# Altium schematic symbol library basic_lib_v10.SchLib: 66 symbols
Pins are listed as number, name and electrical type; pins without a type are passive.

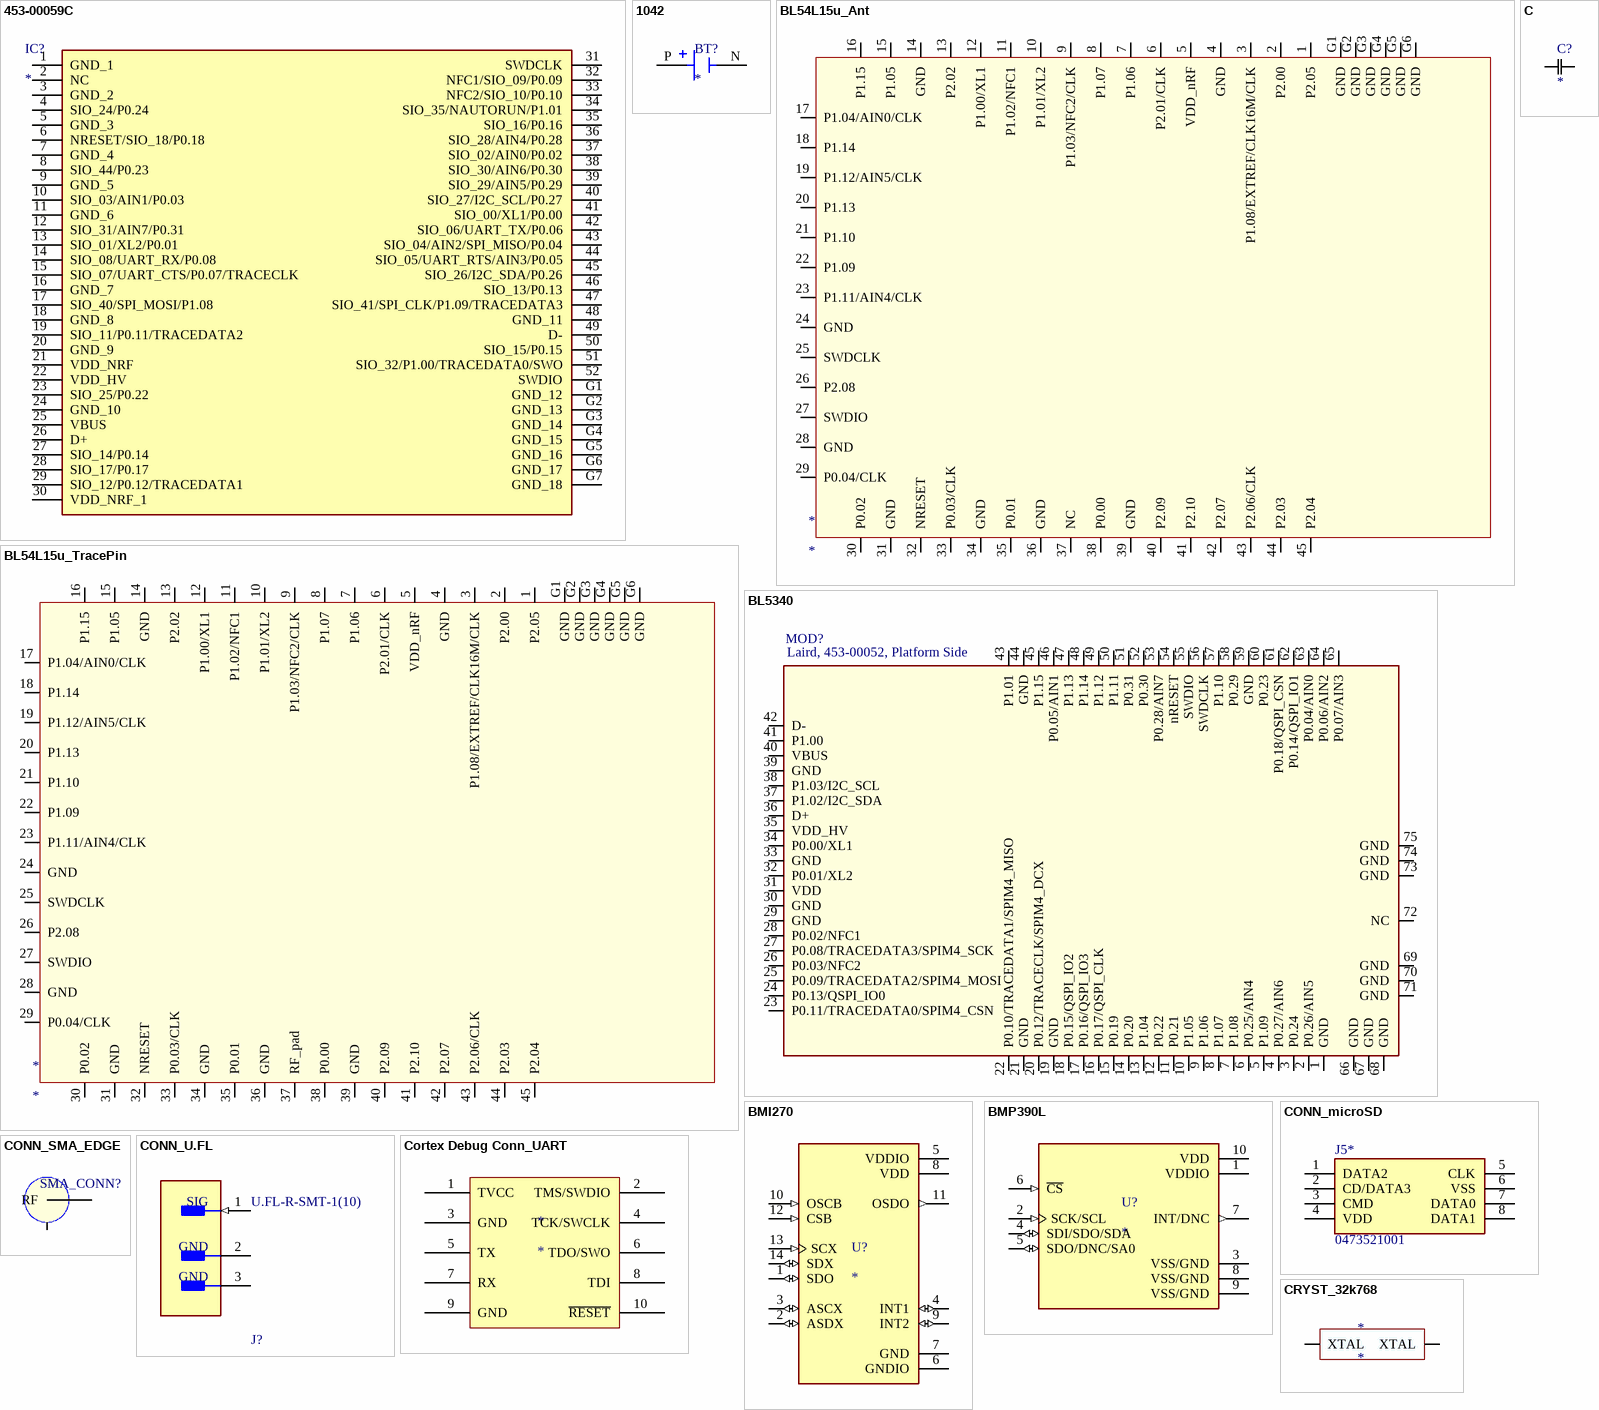
[diagram p0: symbols 453-00059C to CRYST_32k768]

## 453-00059C
designator IC?
Integrated Circuit; Manufacturer_Name: Laird - Wireless & Thermal Systems; Manufacturer_Part_Number: 453-00059C; Datasheet Link: https://connectivity-staging.s3.us-east-2.amazonaws.com/2021-01/CS-DS-BL653u%20v1_1.pdf; Height: 1.6mm
footprint 45300059C
pins: 1 GND_1, 2 NC, 3 GND_2, 4 SIO_24/P0.24, 5 GND_3, 6 NRESET/SIO_18/P0.18, 7 GND_4, 8 SIO_44/P0.23, 9 GND_5, 10 SIO_03/AIN1/P0.03, 11 GND_6, 12 SIO_31/AIN7/P0.31, 13 SIO_01/XL2/P0.01, 14 SIO_08/UART_RX/P0.08, 15 SIO_07/UART_CTS/P0.07/TRACECLK, 16 GND_7, 17 SIO_40/SPI_MOSI/P1.08, 18 GND_8, 19 SIO_11/P0.11/TRACEDATA2, 20 GND_9, 21 VDD_NRF, 22 VDD_HV, 23 SIO_25/P0.22, 24 GND_10, 25 VBUS, 26 D+, 27 SIO_14/P0.14, 28 SIO_17/P0.17, 29 SIO_12/P0.12/TRACEDATA1, 30 VDD_NRF_1, 31 SWDCLK, 32 NFC1/SIO_09/P0.09, 33 NFC2/SIO_10/P0.10, 34 SIO_35/NAUTORUN/P1.01, 35 SIO_16/P0.16, 36 SIO_28/AIN4/P0.28, 37 SIO_02/AIN0/P0.02, 38 SIO_30/AIN6/P0.30, 39 SIO_29/AIN5/P0.29, 40 SIO_27/I2C_SCL/P0.27, 41 SIO_00/XL1/P0.00, 42 SIO_06/UART_TX/P0.06, 43 SIO_04/AIN2/SPI_MISO/P0.04, 44 SIO_05/UART_RTS/AIN3/P0.05, 45 SIO_26/I2C_SDA/P0.26, 46 SIO_13/P0.13, 47 SIO_41/SPI_CLK/P1.09/TRACEDATA3, 48 GND_11, 49 D-, 50 SIO_15/P0.15, 51 SIO_32/P1.00/TRACEDATA0/SWO, 52 SWDIO, G1 GND_12, G2 GND_13, G3 GND_14, G4 GND_15, G5 GND_16, G6 GND_17, G7 GND_18

## 1042
designator BT?
SMT Holder for 18650 Battery; MF: Keystone Electronics Corp.; MP: 1042; SnapEDA_Link: https://www.snapeda.com/parts/1042/Keystone/view-part/?ref=snap; Package: NON STANDARD-5 Keystone; Value: *; Check_prices: https://www.snapeda.com/parts/1042/Keystone/view-part/?ref=eda
footprint BAT_1042
pins: N NEG, P POS

## BL54L15u_Ant
designator *
453-00223_BL54L15u_Chip ANT_SCH_Symbol_Altium
footprint Ezurio, BL54L15u Module, Antenna, Platform Side (Ezurio, BL54L15u Module, Platform Side)
pins: 1 P2.05, 2 P2.00, 3 P1.08/EXTREF/CLK16M/CLK, 4 GND, 5 VDD_nRF, 6 P2.01/CLK, 7 P1.06, 8 P1.07, 9 P1.03/NFC2/CLK, 10 P1.01/XL2, 11 P1.02/NFC1, 12 P1.00/XL1, 13 P2.02, 14 GND, 15 P1.05, 16 P1.15, 17 P1.04/AIN0/CLK, 18 P1.14, 19 P1.12/AIN5/CLK, 20 P1.13, 21 P1.10, 22 P1.09, 23 P1.11/AIN4/CLK, 24 GND, 25 SWDCLK, 26 P2.08, 27 SWDIO, 28 GND, 29 P0.04/CLK, 30 P0.02, 31 GND, 32 NRESET, 33 P0.03/CLK, 34 GND, 35 P0.01, 36 GND, 37 NC, 38 P0.00, 39 GND, 40 P2.09, 41 P2.10, 42 P2.07, 43 P2.06/CLK, 44 P2.03, 45 P2.04, G1 GND, G2 GND, G3 GND, G4 GND, G5 GND, G6 GND

## BL54L15u_TracePin
designator *
453-00224_BL54L15u_RF Trace Pin_SCH_Symbol_Altium
footprint Ezurio, BL54L15u Module, RF Trace Pin, Platform Side (Ezurio, BL54L15u Module, Platform Side)
pins: 1 P2.05, 2 P2.00, 3 P1.08/EXTREF/CLK16M/CLK, 4 GND, 5 VDD_nRF, 6 P2.01/CLK, 7 P1.06, 8 P1.07, 9 P1.03/NFC2/CLK, 10 P1.01/XL2, 11 P1.02/NFC1, 12 P1.00/XL1, 13 P2.02, 14 GND, 15 P1.05, 16 P1.15, 17 P1.04/AIN0/CLK, 18 P1.14, 19 P1.12/AIN5/CLK, 20 P1.13, 21 P1.10, 22 P1.09, 23 P1.11/AIN4/CLK, 24 GND, 25 SWDCLK, 26 P2.08, 27 SWDIO, 28 GND, 29 P0.04/CLK, 30 P0.02, 31 GND, 32 NRESET, 33 P0.03/CLK, 34 GND, 35 P0.01, 36 GND, 37 RF_pad, 38 P0.00, 39 GND, 40 P2.09, 41 P2.10, 42 P2.07, 43 P2.06/CLK, 44 P2.03, 45 P2.04, G1 GND, G2 GND, G3 GND, G4 GND, G5 GND, G6 GND

## BL5340
designator MOD?, comment Laird, 453-00052, Platform Side
Module, BL5340, Integrated Antenna, Laird, 453-00052, Platform Side; Substitutes Allowed: NO; Manufacturer: Laird; Footprint: Laird, BL5340 Module, Platform Side; Mounting: SMT; Manufacturer Part Number: 453-00052; Operating Temperature: -40C~105C; Component Type: Module
footprint Laird, 453-00052, Platform Side
footprint Laird, 453-00052, Platform Side_NO_KEEPOUT
pins: 1 GND, 2 P0.26/AIN5, 3 P0.24, 4 P0.27/AIN6, 5 P1.09, 6 P0.25/AIN4, 7 P1.08, 8 P1.07, 9 P1.06, 10 P1.05, 11 P0.21, 12 P0.22, 13 P1.04, 14 P0.20, 15 P0.19, 16 P0.17/QSPI_CLK, 17 P0.16/QSPI_IO3, 18 P0.15/QSPI_IO2, 19 GND, 20 P0.12/TRACECLK/SPIM4_DCX, 21 GND, 22 P0.10/TRACEDATA1/SPIM4_MISO, 23 P0.11/TRACEDATA0/SPIM4_CSN, 24 P0.13/QSPI_IO0, 25 P0.09/TRACEDATA2/SPIM4_MOSI, 26 P0.03/NFC2, 27 P0.08/TRACEDATA3/SPIM4_SCK, 28 P0.02/NFC1, 29 GND, 30 GND, 31 VDD, 32 P0.01/XL2, 33 GND, 34 P0.00/XL1, 35 VDD_HV, 36 D+, 37 P1.02/I2C_SDA, 38 P1.03/I2C_SCL, 39 GND, 40 VBUS, 41 P1.00, 42 D-, 43 P1.01, 44 GND, 45 P1.15, 46 P0.05/AIN1, 47 P1.13, 48 P1.14, 49 P1.12, 50 P1.11, 51 P0.31, 52 P0.30, 53 P0.28/AIN7, 54 nRESET, 55 SWDIO, 56 SWDCLK, 57 P1.10, 58 P0.29, 59 GND, 60 P0.23, 61 P0.18/QSPI_CSN, 62 P0.14/QSPI_IO1, 63 P0.04/AIN0, 64 P0.06/AIN2, 65 P0.07/AIN3, 66 GND, 67 GND, 68 GND, 69 GND, 70 GND, 71 GND, 72 NC, 73 GND, 74 GND, 75 GND

## BMI270
designator U?
Accelerometer, Gyroscope, 6 Axis Sensor IÂ²C, SPI Output; MP: BMI270; MF: Bosch Sensortec; Digi-Key_Part_Number: 828-1091-2-ND; Check_prices: https://www.snapeda.com/parts/BMI270/Bosch+Sensortec/view-part/?ref=eda; Package: LGA-14 Bosch Sensortec; SnapEDA_Link: https://www.snapeda.com/parts/BMI270/Bosch+Sensortec/view-part/?ref=snap; Value: *; Purchase-URL: https://pricing.snapeda.com/search/part/BMI270/?ref=eda
footprint BMI270
footprint BMI270_2
pins: 1 SDO (io), 2 ASDX (io), 3 ASCX (io), 4 INT1 (io), 5 VDDIO (power), 6 GNDIO (power), 7 GND (power), 8 VDD (power), 9 INT2 (io), 10 OSCB (in), 11 OSDO (out), 12 CSB (in), 13 SCX (in), 14 SDX (io)

## BMP390L
designator U?
Pressure Sensor 4.35PSI ~ 18.13PSI (30kPa ~ 125kPa) Absolute - - 10-WFLGA; MF: Bosch Sensortec; MP: BMP390L; SnapEDA_Link: https://www.snapeda.com/parts/BMP390L/Bosch+Sensortec/view-part/?ref=snap; Package: None; Value: *; Check_prices: https://www.snapeda.com/parts/BMP390L/Bosch+Sensortec/view-part/?ref=eda
footprint BMP390L
footprint BMP388
pins: 1 VDDIO (power), 2 SCK/SCL (in), 3 VSS/GND (power), 4 SDI/SDO/SDA (io), 5 SDO/DNC/SA0 (io), 6 ~{CS} (in), 7 INT/DNC (out), 8 VSS/GND (power), 9 VSS/GND (power), 10 VDD (power)

## C
designator C?
Capacitor
footprint 0805C
footprint 1206C
footprint 2312
footprint 0201 (Footprint not found)
footprint 0402C
footprint 0603C
footprint 0402C_narrow
pins: 1, 2

## CONN_microSD
designator J5*, comment 0473521001
Connector microSD MOLEX 47352-1001; Datasheet Link: https://www.molex.com/pdm_docs/sd/473521001_sd.pdf; Manufacturer_Name: Molex; Manufacturer_Part_Number: 0473521001; Mouser Part Number: N/A; Mouser Price/Stock: https://www.mouser.co.uk/ProductDetail/Molex/0473521001?qs=PBcRNPEHKsrQd1p8U2aFXw%3D%3D; Arrow Part Number: 0473521001; Arrow Price/Stock: https://www.arrow.com/en/products/0473521001/molex
footprint CONN_microSD (Molex 47352-1001)
pins: 1 DATA2, 2 CD/DATA3, 3 CMD, 4 VDD, 5 CLK, 6 VSS, 7 DATA0, 8 DATA1

## CONN_SMA_EDGE
designator SMA_CONN?
SMA Edge Connecto
footprint sma_conn (SMA edge connector)
pins: 1 RF, 2 GND

## CONN_U.FL
designator J?, comment U.FL-R-SMT-1(10)
u.FL Connector, CMP-2000-05152-3; Max Frequency: 6GHz; Connector Type: Coaxial; Body Plating: Silver; Body Material: Bronze; Impedance: 50R; Dielectric Material: Polymer; Insulation Resistance: 500MR; Gender: Male; Packaging: Cut Tape; Length: 3mm; Package Quantity: 2500; Termination: Solder; Lead Free: Lead Free; Series: U.FL; Min Operating Temperature: -40°C; Fastening Type: Snap; Contact Material: Brass; Orientation: Straight; Wire/Cable Type: Coaxial; Frequency: 6GHz; Contact Plating: Gold; Depth: 3.1mm; Weight: 0.001764oz; Max Operating Temperature: 90°C; Radiation Hardening: No; REACH SVHC: No SVHC; Mount: Surface Mount; Housing Color: Beige
footprint FP-U_FL-R-SMT-1_10-MFG
pins: 1 SIG (in), 2 GND (power), 3 GND (power)

## Cortex Debug Conn_UART
designator *
JTAG10 Connector
footprint Cortex Debug Connector - THT
footprint Cortex Debug Connector - THT - conn
pins: 1 TVCC, 2 TMS/SWDIO, 3 GND, 4 TCK/SWCLK, 5 TX, 6 TDO/SWO, 7 RX, 8 TDI, 9 GND, 10 ~{RESET}

## CRYST_32k768
designator *
XTAL
footprint CRYST 32.768 kHz
pins: 1 XTAL, 2 XTAL

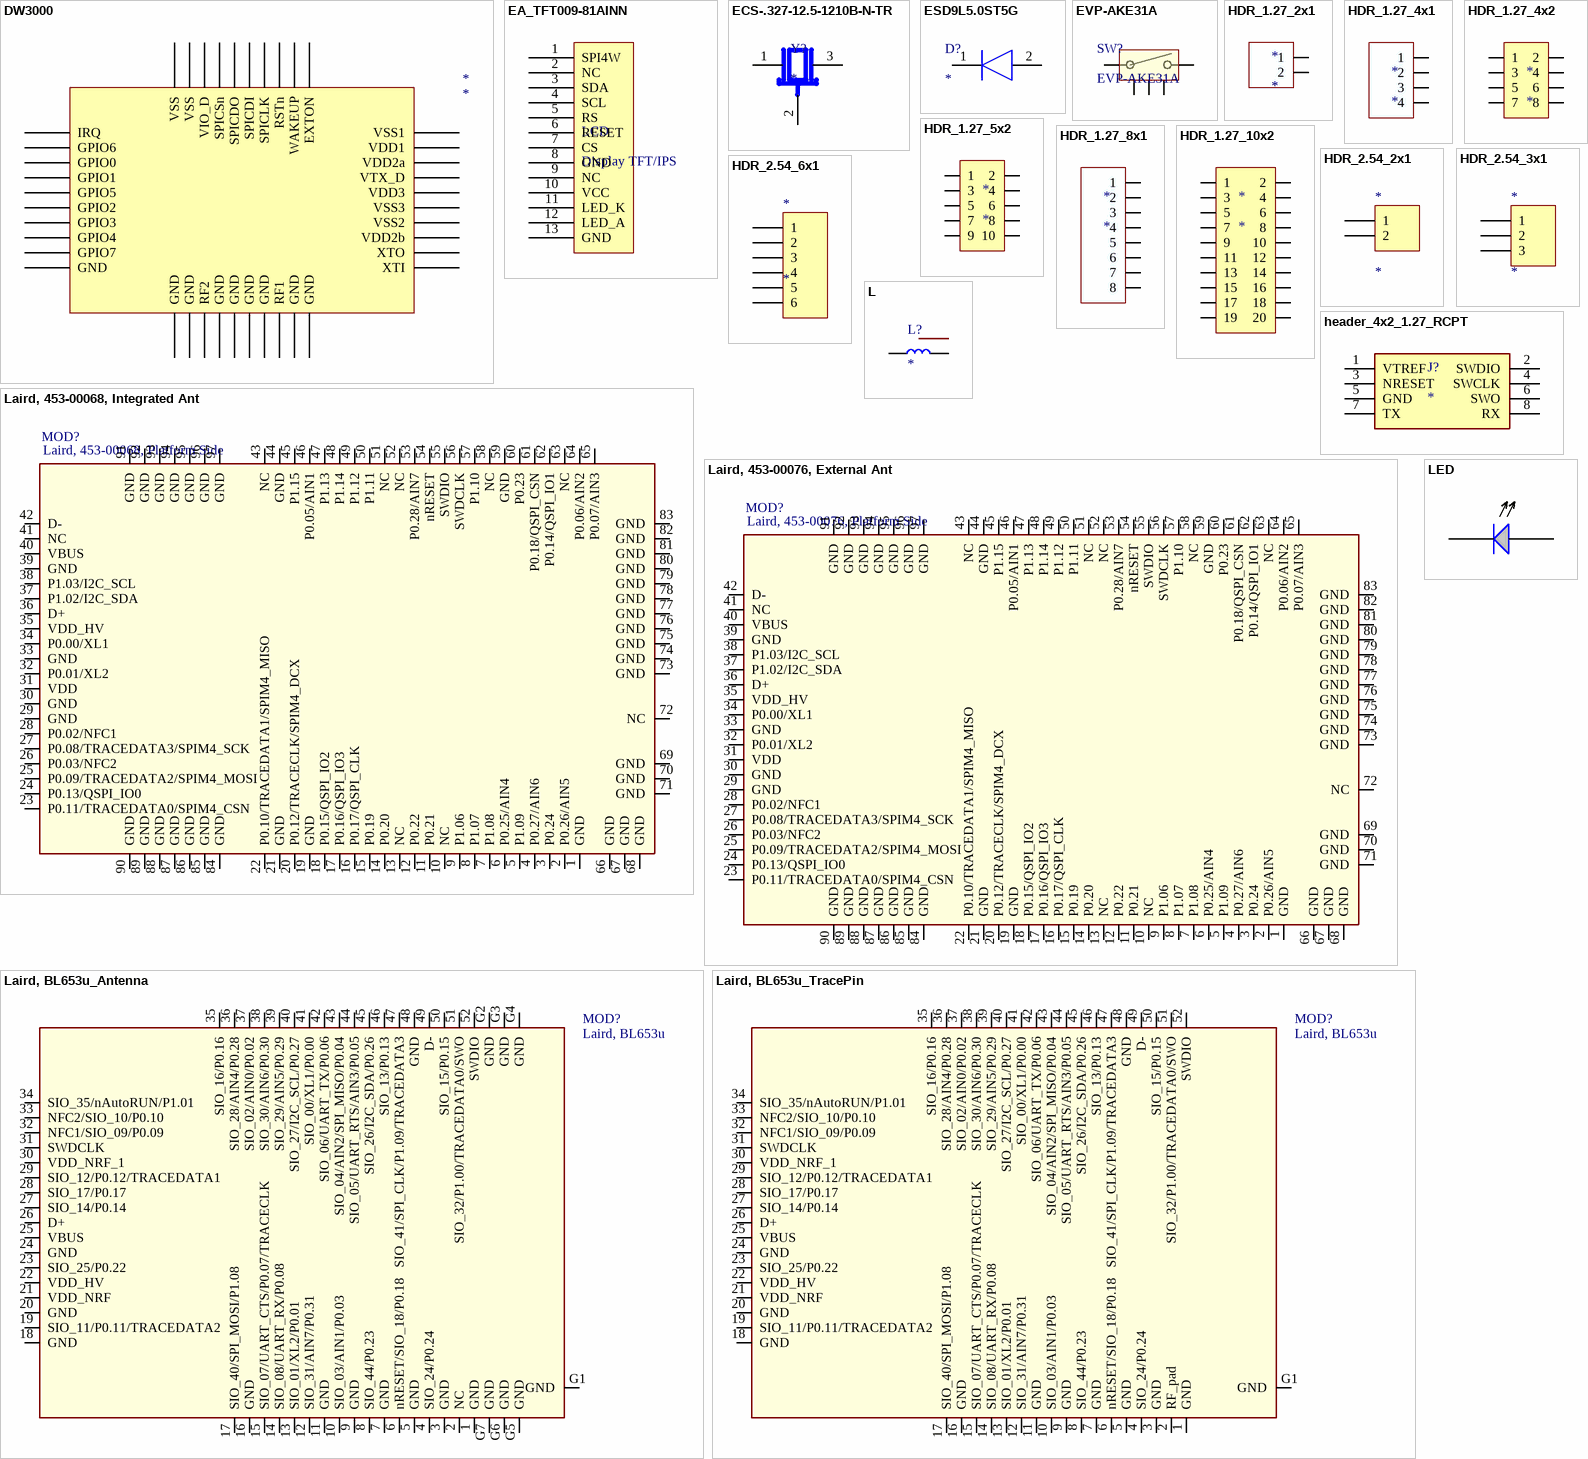
[diagram p1: symbols DW3000 to LED]

## DW3000
designator *
DW3220 TRX
footprint DW3000_4
pins: 1 IRQ, 2 GPIO6, 3 GPIO0, 4 GPIO1, 5 GPIO5, 6 GPIO2, 7 GPIO3, 8 GPIO4, 9 GPIO7, 10 GND, 11 GND, 12 GND, 13 RF2, 14 GND, 15 GND, 16 GND, 17 GND, 18 RF1, 19 GND, 20 GND, 21 XTI, 22 XTO, 23 VDD2b, 24 VSS2, 25 VSS3, 26 VDD3, 27 VTX_D, 28 VDD2a, 29 VDD1, 30 VSS1, 31 EXTON, 32 WAKEUP, 33 RSTn, 34 SPICLK, 35 SPICDI, 36 SPICDO, 37 SPICSn, 38 VIO_D, 39 VSS, 40 VSS

## EA_TFT009-81AINN
designator LCD, comment Display TFT/IPS
footprint EA TFT009-81AINN
pins: 1 SPI4W, 2 NC, 3 SDA, 4 SCL, 5 RS, 6 RESET, 7 CS, 8 GND, 9 NC, 10 VCC, 11 LED_K, 12 LED_A, 13 GND

## ECS-.327-12.5-1210B-N-TR
designator Y?
32.768 kHz Â±20ppm Crystal 12.5pF 80 kOhms 4-SMD, No Lead; MF: ECS Inc.; MP: ECS-.327-12.5-1210B-N-TR; SnapEDA_Link: https://www.snapeda.com/parts/ECS-.327-12.5-1210B-N-TR/ECS/view-part/?ref=snap; Package: SMD-4 ECS Inc.; Value: *; Check_prices: https://www.snapeda.com/parts/ECS-.327-12.5-1210B-N-TR/ECS/view-part/?ref=eda
footprint ECS3271251210BNTR
pins: 1 IN/OUT, 2 GND (power), 3 OUT/IN

## ESD9L5.0ST5G
designator D?
Diode; Manufacturer_Name: ON Semiconductor; Manufacturer_Part_Number: ESD9L5.0ST5G; Datasheet Link: https://componentsearchengine.com/Datasheets/1/ESD9L5.0ST5G.pdf; Height: 0.4mm; Mouser Part Number: 863-ESD9L5.0ST5G; Mouser Price/Stock: https://www.mouser.com/Search/Refine.aspx?Keyword=863-ESD9L5.0ST5G
footprint SODFL1006X40N
pins: 1 K, 2 A

## EVP-AKE31A
designator SW?
Switch side; Manufacturer_Name: Panasonic; Copyright: Copyright (C) 2025 Ultra Librarian. All rights reserved.; Manufacturer_Part_Number: EVP-AKE31A; Digi-Key_Part_Number_1: P123437TR-ND; Digi-Key_Part_Number_2: P123437CT-ND; Digi-Key_Part_Number_3: P123437DKR-ND
footprint SW_EVP-AKE31A_PAN
pins: 1, 2, 3, 4, 5

## HDR_1.27_2x1
designator *
Header 1.27
footprint HDR 1.27mm 1x2 (header)
pins: 1, 2

## HDR_1.27_4x1
designator *
Header 1.27
footprint HDR 1.27mm 1x4 (header)
pins: 1, 2, 3, 4

## HDR_1.27_4x2
designator *
Header 1.27
footprint Header 4x2 1.27mm
pins: 1, 2, 3, 4, 5, 6, 7, 8

## HDR_1.27_5x2
designator *
Header 1.27
footprint Header 5x2 1.27mm-pins
footprint Header 5x2 1.27mm
pins: 1, 2, 3, 4, 5, 6, 7, 8, 9, 10

## HDR_1.27_8x1
designator *
Header 1.27
footprint HDR 1.27mm 1x8 (header)
pins: 1, 2, 3, 4, 5, 6, 7, 8

## HDR_1.27_10x2
designator *
Header 1.27
footprint Header 2x10 1.27mm plug
pins: 1, 2, 3, 4, 5, 6, 7, 8, 9, 10, 11, 12, 13, 14, 15, 16, 17, 18, 19, 20

## HDR_2.54_2x1
designator *
Header 2.54, 2-Pin; LatestRevisionDate: 17-Jul-2002; LatestRevisionNote: Re-released for DXP Platform.; Publisher: Altium Limited
footprint HDR 2.54MM 1x2 (Connector; Header; 2 Position)
pins: 1, 2

## HDR_2.54_3x1
designator *
Header 2.54, 3-Pin; LatestRevisionDate: 17-Jul-2002; LatestRevisionNote: Re-released for DXP Platform.; Publisher: Altium Limited
footprint HDR 2.54MM 1X3 (Connector; Header; 3 Position)
pins: 1, 2, 3

## HDR_2.54_6x1
designator *
Header 2.54, 6-Pin; LatestRevisionDate: 17-Jul-2002; LatestRevisionNote: Re-released for DXP Platform.; Publisher: Altium Limited
footprint HDR 2.54MM 1x6 (Connector; Header; 6 Position)
pins: 1, 2, 3, 4, 5, 6

## header_4x2_1.27_RCPT
designator J?
Connector; Manufacturer_Name: Amphenol Communications Solutions; Manufacturer_Part_Number: 20021111-00006T1LF; Datasheet Link: https://cdn.amphenol-cs.com/media/wysiwyg/files/drawing/20021111.pdf; Height: 5.75mm
footprint header_3x2_1.27 RCPT
pins: 1 VTREF, 2 SWDIO, 3 NRESET, 4 SWCLK, 5 GND, 6 SWO, 7 TX, 8 RX

## L
designator L?
Inductor
footprint 0402L
footprint 0603L
footprint 0805L
footprint 1206L
footprint 2520L
footprint 2520L_2 (NPM1300 inductor)
pins: 1, 2

## Laird, 453-00068, Integrated Ant
designator MOD?, comment Laird, 453-00068, Platform Side
Module, BL5340PA, Integrated Antenna; Substitutes Allowed: NO; Manufacturer: Laird; Footprint: Laird, BL5340PA Module, Platform Side; Mounting: SMT; Manufacturer Part Number: 453-00068; Operating Temperature: -40C~105C; Component Type: Module
footprint Laird, BL5340 Module, Integrated Antenna
pins: 1 GND, 2 P0.26/AIN5, 3 P0.24, 4 P0.27/AIN6, 5 P1.09, 6 P0.25/AIN4, 7 P1.08, 8 P1.07, 9 P1.06, 10 NC, 11 P0.21, 12 P0.22, 13 NC, 14 P0.20, 15 P0.19, 16 P0.17/QSPI_CLK, 17 P0.16/QSPI_IO3, 18 P0.15/QSPI_IO2, 19 GND, 20 P0.12/TRACECLK/SPIM4_DCX, 21 GND, 22 P0.10/TRACEDATA1/SPIM4_MISO, 23 P0.11/TRACEDATA0/SPIM4_CSN, 24 P0.13/QSPI_IO0, 25 P0.09/TRACEDATA2/SPIM4_MOSI, 26 P0.03/NFC2, 27 P0.08/TRACEDATA3/SPIM4_SCK, 28 P0.02/NFC1, 29 GND, 30 GND, 31 VDD, 32 P0.01/XL2, 33 GND, 34 P0.00/XL1, 35 VDD_HV, 36 D+, 37 P1.02/I2C_SDA, 38 P1.03/I2C_SCL, 39 GND, 40 VBUS, 41 NC, 42 D-, 43 NC, 44 GND, 45 P1.15, 46 P0.05/AIN1, 47 P1.13, 48 P1.14, 49 P1.12, 50 P1.11, 51 NC, 52 NC, 53 P0.28/AIN7, 54 nRESET, 55 SWDIO, 56 SWDCLK, 57 P1.10, 58 NC, 59 GND, 60 P0.23, 61 P0.18/QSPI_CSN, 62 P0.14/QSPI_IO1, 63 NC, 64 P0.06/AIN2, 65 P0.07/AIN3, 66 GND, 67 GND, 68 GND, 69 GND, 70 GND, 71 GND, 72 NC, 73 GND, 74 GND, 75 GND, 76 GND, 77 GND, 78 GND, 79 GND, 80 GND, 81 GND, 82 GND, 83 GND, 84 GND, 85 GND, 86 GND, 87 GND, 88 GND, 89 GND, 90 GND, 91 GND, 92 GND, 93 GND, 94 GND, 95 GND, 96 GND, 97 GND

## Laird, 453-00076, External Ant
designator MOD?, comment Laird, 453-00076, Platform Side
Module, BL5340PA, External Antenna; Substitutes Allowed: NO; Manufacturer: Laird; Footprint: Laird, BL5340PA Module, Platform Side; Mounting: SMT; Manufacturer Part Number: 453-00076; Operating Temperature: -40C~105C; Component Type: Module
footprint Laird, BL5340 Module, External Antenna
pins: 1 GND, 2 P0.26/AIN5, 3 P0.24, 4 P0.27/AIN6, 5 P1.09, 6 P0.25/AIN4, 7 P1.08, 8 P1.07, 9 P1.06, 10 NC, 11 P0.21, 12 P0.22, 13 NC, 14 P0.20, 15 P0.19, 16 P0.17/QSPI_CLK, 17 P0.16/QSPI_IO3, 18 P0.15/QSPI_IO2, 19 GND, 20 P0.12/TRACECLK/SPIM4_DCX, 21 GND, 22 P0.10/TRACEDATA1/SPIM4_MISO, 23 P0.11/TRACEDATA0/SPIM4_CSN, 24 P0.13/QSPI_IO0, 25 P0.09/TRACEDATA2/SPIM4_MOSI, 26 P0.03/NFC2, 27 P0.08/TRACEDATA3/SPIM4_SCK, 28 P0.02/NFC1, 29 GND, 30 GND, 31 VDD, 32 P0.01/XL2, 33 GND, 34 P0.00/XL1, 35 VDD_HV, 36 D+, 37 P1.02/I2C_SDA, 38 P1.03/I2C_SCL, 39 GND, 40 VBUS, 41 NC, 42 D-, 43 NC, 44 GND, 45 P1.15, 46 P0.05/AIN1, 47 P1.13, 48 P1.14, 49 P1.12, 50 P1.11, 51 NC, 52 NC, 53 P0.28/AIN7, 54 nRESET, 55 SWDIO, 56 SWDCLK, 57 P1.10, 58 NC, 59 GND, 60 P0.23, 61 P0.18/QSPI_CSN, 62 P0.14/QSPI_IO1, 63 NC, 64 P0.06/AIN2, 65 P0.07/AIN3, 66 GND, 67 GND, 68 GND, 69 GND, 70 GND, 71 GND, 72 NC, 73 GND, 74 GND, 75 GND, 76 GND, 77 GND, 78 GND, 79 GND, 80 GND, 81 GND, 82 GND, 83 GND, 84 GND, 85 GND, 86 GND, 87 GND, 88 GND, 89 GND, 90 GND, 91 GND, 92 GND, 93 GND, 94 GND, 95 GND, 96 GND, 97 GND

## Laird, BL653u_Antenna
designator MOD?, comment Laird, BL653u
BL653µ Integrated Antenna module, 453-00059; Substitutes Allowed: NO; Datasheet Link: https://connectivity-staging.s3.us-east-2.amazonaws.com/s3fs-public/2018-12/BL654%20Datasheet%20v1_6.pdf; Mounting: SMT; Operating Temperature: -40C~85C; Manufacturer Part Number: 453-00059; Footprint: Laird, Module, BL653u-SA; Manufacturer: Laird
footprint LAIRD, BL653U_SA_MODULE_ANTENNA (Laird, BL653 Module_SA)
pins: 1 GND, 2 NC, 3 GND, 4 SIO_24/P0.24, 5 GND, 6 nRESET/SIO_18/P0.18, 7 GND, 8 SIO_44/P0.23, 9 GND, 10 SIO_03/AIN1/P0.03, 11 GND, 12 SIO_31/AIN7/P0.31, 13 SIO_01/XL2/P0.01, 14 SIO_08/UART_RX/P0.08, 15 SIO_07/UART_CTS/P0.07/TRACECLK, 16 GND, 17 SIO_40/SPI_MOSI/P1.08, 18 GND, 19 SIO_11/P0.11/TRACEDATA2, 20 GND, 21 VDD_NRF, 22 VDD_HV, 23 SIO_25/P0.22           , 24 GND, 25 VBUS, 26 D+, 27 SIO_14/P0.14, 28 SIO_17/P0.17, 29 SIO_12/P0.12/TRACEDATA1, 30 VDD_NRF_1, 31 SWDCLK, 32 NFC1/SIO_09/P0.09, 33 NFC2/SIO_10/P0.10, 34 SIO_35/nAutoRUN/P1.01, 35 SIO_16/P0.16, 36 SIO_28/AIN4/P0.28, 37 SIO_02/AIN0/P0.02, 38 SIO_30/AIN6/P0.30, 39 SIO_29/AIN5/P0.29, 40 SIO_27/I2C_SCL/P0.27, 41 SIO_00/XL1/P0.00, 42 SIO_06/UART_TX/P0.06, 43 SIO_04/AIN2/SPI_MISO/P0.04, 44 SIO_05/UART_RTS/AIN3/P0.05, 45 SIO_26/I2C_SDA/P0.26, 46 SIO_13/P0.13, 47 SIO_41/SPI_CLK/P1.09/TRACEDATA3, 48 GND, 49 D-, 50 SIO_15/P0.15, 51 SIO_32/P1.00/TRACEDATA0/SWO, 52 SWDIO, G1 GND, G2 GND, G3 GND, G4 GND, G5 GND, G6 GND, G7 GND

## Laird, BL653u_TracePin
designator MOD?, comment Laird, BL653u
BL653µ RF Trace pin module, 453-00060; Substitutes Allowed: NO; Datasheet Link: https://connectivity-staging.s3.us-east-2.amazonaws.com/s3fs-public/2018-12/BL654%20Datasheet%20v1_6.pdf; Mounting: SMT; Operating Temperature: -40C~85C; Manufacturer Part Number: 453-00060; Footprint: Laird, Module, BL653u-ST; Manufacturer: Laird
footprint LAIRD, BL653U_ST_MODULE_TRACE_PIN (Laird, BL653 Module)
pins: 1 GND, 2 RF_pad, 3 GND, 4 SIO_24/P0.24, 5 GND, 6 nRESET/SIO_18/P0.18, 7 GND, 8 SIO_44/P0.23, 9 GND, 10 SIO_03/AIN1/P0.03, 11 GND, 12 SIO_31/AIN7/P0.31, 13 SIO_01/XL2/P0.01, 14 SIO_08/UART_RX/P0.08, 15 SIO_07/UART_CTS/P0.07/TRACECLK, 16 GND, 17 SIO_40/SPI_MOSI/P1.08, 18 GND, 19 SIO_11/P0.11/TRACEDATA2, 20 GND, 21 VDD_NRF, 22 VDD_HV, 23 SIO_25/P0.22     , 24 GND, 25 VBUS, 26 D+, 27 SIO_14/P0.14, 28 SIO_17/P0.17, 29 SIO_12/P0.12/TRACEDATA1, 30 VDD_NRF_1, 31 SWDCLK, 32 NFC1/SIO_09/P0.09, 33 NFC2/SIO_10/P0.10, 34 SIO_35/nAutoRUN/P1.01, 35 SIO_16/P0.16, 36 SIO_28/AIN4/P0.28, 37 SIO_02/AIN0/P0.02, 38 SIO_30/AIN6/P0.30, 39 SIO_29/AIN5/P0.29, 40 SIO_27/I2C_SCL/P0.27, 41 SIO_00/XL1/P0.00, 42 SIO_06/UART_TX/P0.06, 43 SIO_04/AIN2/SPI_MISO/P0.04, 44 SIO_05/UART_RTS/AIN3/P0.05, 45 SIO_26/I2C_SDA/P0.26, 46 SIO_13/P0.13, 47 SIO_41/SPI_CLK/P1.09/TRACEDATA3, 48 GND, 49 D-, 50 SIO_15/P0.15, 51 SIO_32/P1.00/TRACEDATA0/SWO, 52 SWDIO, G1 GND

## LED
designator 1
LED
footprint 0402LED_AMBER
footprint 0402LED_BLUE
footprint 0402LED_GREEN
footprint 0402LED_RED
footprint 0402LED_YELLOW
footprint 0603LED_AMBER
footprint 0603LED_BLUE
footprint 0603LED_GREEN
footprint 0603LED_RED
footprint 0603LED_YELLOW
footprint 0805LED_AMBER
footprint 0805LED_BLUE
footprint 0805LED_GREEN
footprint 0805LED_RED
footprint 0805LED_YELLOW
pins: 1, 2

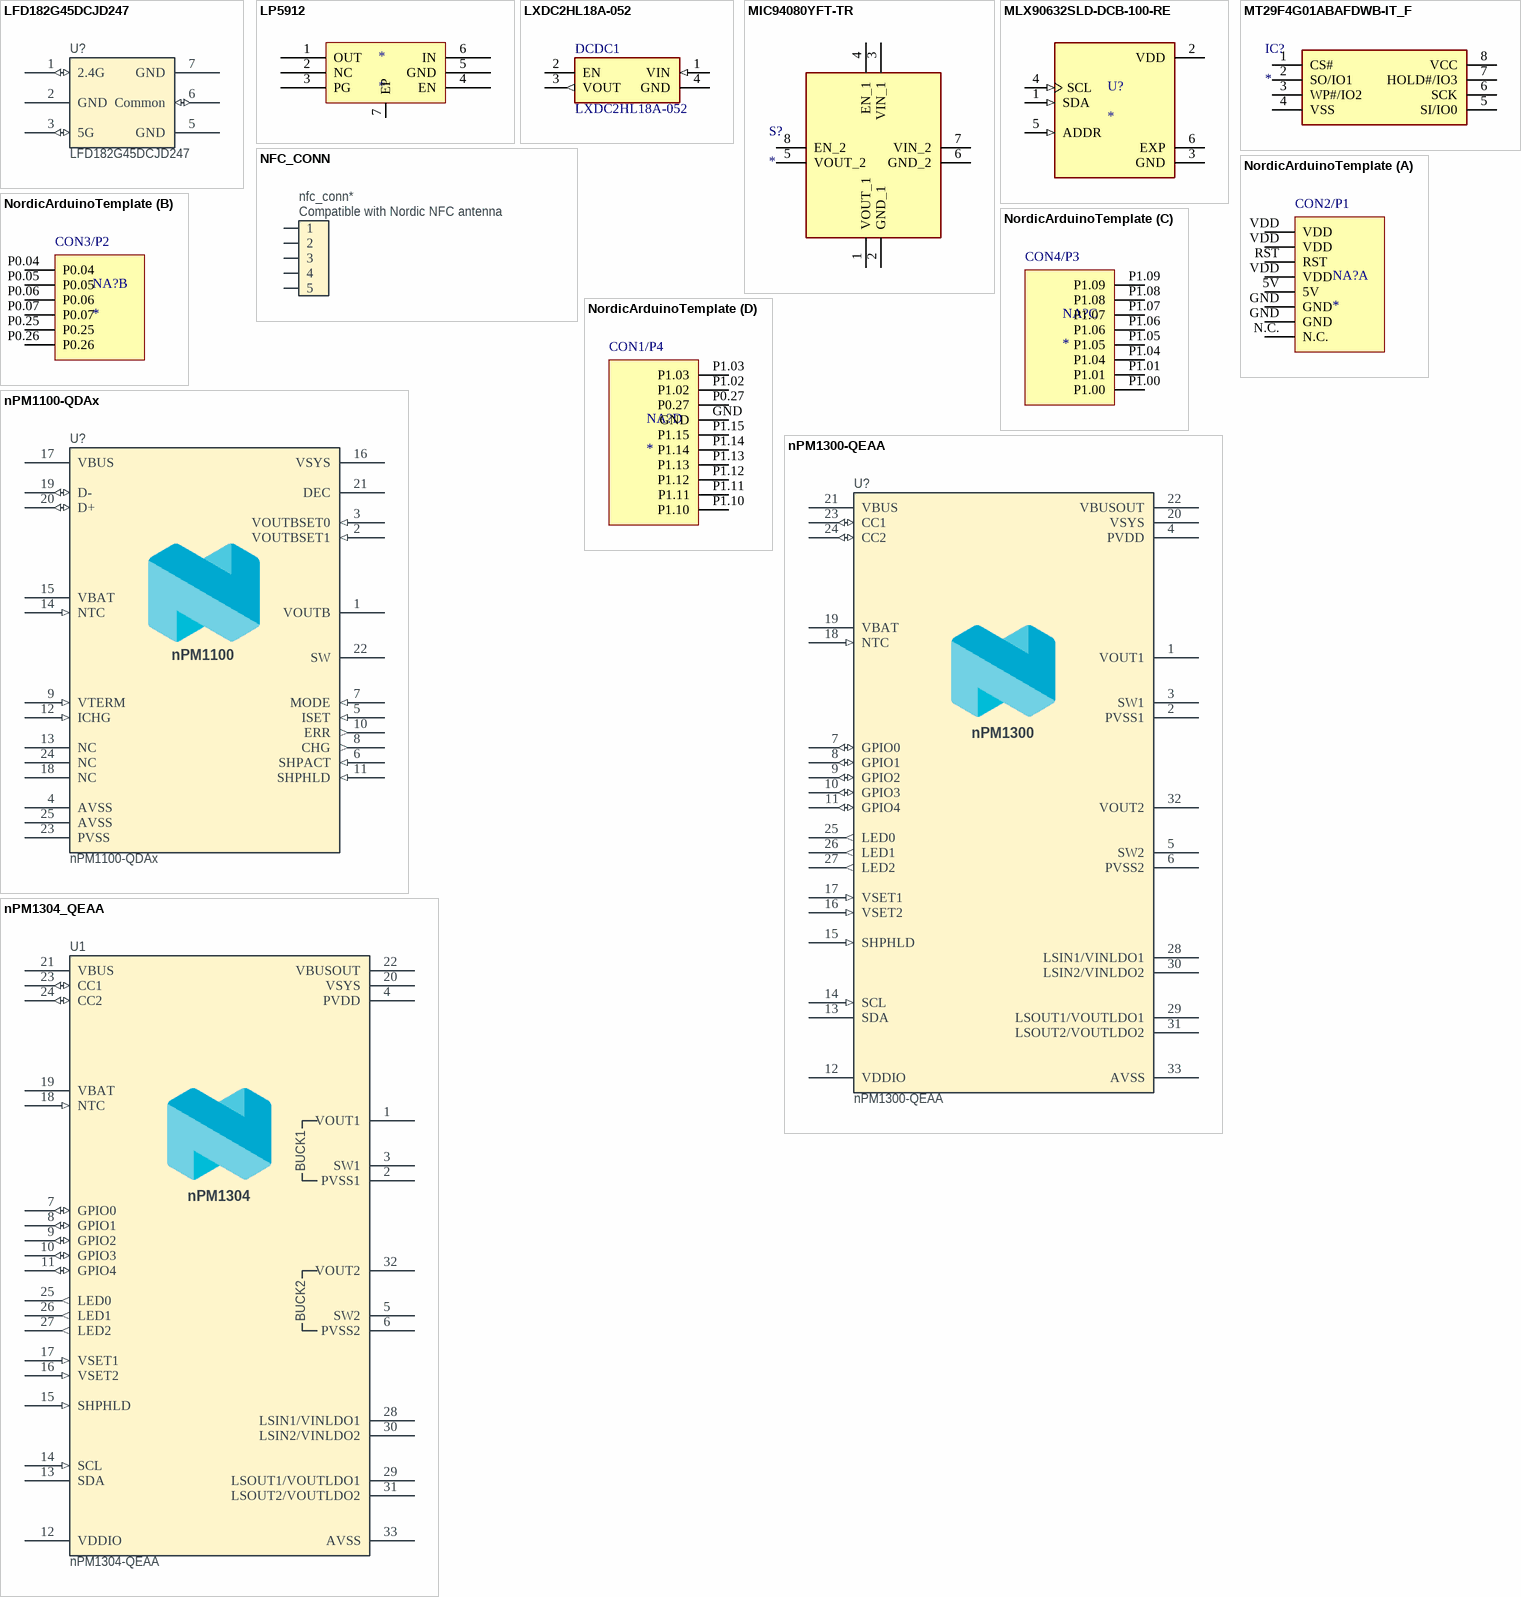
[diagram p2: symbols LFD182G45DCJD247 to nPM1304_QEAA]

## LFD182G45DCJD247
designator U?, comment value LFD182G45DCJD247  (hidden comment: LFD_Diplexer)
Diplexer 2.4GHz and 5GHz; Manufacturer: Murata; Part number NEMS: 100800026; Pad Count: 6; Note: N.A.; Component Status: Active; Part Number: LFD182G45DCJD247; Component Class: Filters; Author: hany; Manufacturer Part Number: LFD182G45DCJD247; ComponentLink1URL: https://no.mouser.com/datasheet/2/281/1/LFD182G45DCJD247-2399435.pdf; ComponentLink1Description: Datasheet; ComponentLink2URL: N.A.; ComponentLink2Description: Supplier link; HelpURL: N.A.; Footprint Doc: CAF; LatestRevisionDate: 2021-10-06; Published: 2021-10-06; Supplier 1: Mouser; Supplier Part Number 1: 81-LFD182G45DCJD247; Supplier 2: N.A.; Supplier Part Number 2: N.A.; Artikkelnr Noca: N.A.; Part number IPS: N.A.; Part number Norautron: N.A.; PartId: 100800026
footprint CAF-50P160X80-6N
pins: 1 2.4G (io), 2 GND (power), 3 5G (io), 5 GND (power), 6 Common (io), 7 GND (power)

## LP5912
designator *
LDO
footprint WSON-6
pins: 1 OUT, 2 NC, 3 PG, 4 EN, 5 GND, 6 IN, 7 EP

## LXDC2HL18A-052
designator DCDC1
DCDC 1.8V; Manufacturer_Name: Murata Electronics; Datasheet Link: http://power.murata.com/data/power/LXDC2HL_Series_datasheet_E.pdf; Manufacturer_Part_Number: LXDC2HL18A-052; Mouser Part Number: 81-LXDC2HL18A-052; Mouser Price/Stock: https://www.mouser.co.uk/ProductDetail/Murata-Electronics/LXDC2HL18A-052?qs=J1R1puj4KiHdsFTjZv2fRQ%3D%3D; Arrow Part Number: LXDC2HL18A-052; Arrow Price/Stock: https://www.arrow.com/en/products/lxdc2hl18a-052/murata-manufacturing
footprint LXDC2HL18A-052
pins: 1 VIN (in), 2 EN, 3 VOUT (out), 4 GND (power)

## MIC94080YFT-TR
designator S?
Switch; Manufacturer_Name: Microchip; Manufacturer_Part_Number: MIC94080YFT-TR; Datasheet Link: http://www.microchip.com/mymicrochip/filehandler.aspx?ddocname=en580373; Height: 0.6mm; Mouser Part Number: 998-MIC94080YFTTR; Mouser Price/Stock: https://www.mouser.co.uk/ProductDetail/Microchip-Technology-Micrel/MIC94080YFT-TR?qs=Y3Q3JoKAO1Qxc6XhHqt1AA%3D%3D; Arrow Part Number: MIC94080YFT-TR; Arrow Price/Stock: https://www.arrow.com/en/products/mic94080yft-tr/microchip-technology?region=nac
footprint MIC94080YFTTR
pins: 1 VOUT_1, 2 GND_1, 3 VIN_1, 4 EN_1, 5 VOUT_2, 6 GND_2, 7 VIN_2, 8 EN_2

## MLX90632SLD-DCB-100-RE
designator U?
Contact temperature sensor; MP: MLX90632SLD-DCB-100-RE; Package: None; Price: None; Value: *; Availability: Unavailable
footprint IC_MLX90632SLD-DCB-100-RE
pins: 1 SDA (in), 2 VDD (power), 3 GND (power), 4 SCL (in), 5 ADDR (in), 6 EXP (power)

## MT29F4G01ABAFDWB-IT_F
designator IC?
Flash Memory Micron; Manufacturer_Part_Number: MT29F4G01ABAFDWB-IT:F; Datasheet Link: https://www.farnell.com/datasheets/3151403.pdf; Height: 0.65mm; Manufacturer_Name: Micron; Mouser Part Number: 340-359563; Mouser Price/Stock: https://www.mouser.co.uk/ProductDetail/Micron/MT29F4G01ABAFDWB-ITF?qs=wUXugUrL1qwrjb7To7JPbA%3D%3D; Arrow Part Number: MT29F4G01ABAFDWB-IT:F; Arrow Price/Stock: https://www.arrow.com/en/products/mt29f4g01abafdwb-itf/micron-technology
footprint SON127P800X600X65-8N
pins: 1 CS#, 2 SO/IO1, 3 WP#/IO2, 4 VSS, 5 SI/IO0, 6 SCK, 7 HOLD#/IO3, 8 VCC

## NFC_CONN
designator nfc_conn*, comment Compatible with Nordic NFC antenna
0.5mm FPC, 5P,Right Angle SMT,Double Contact,H=1.2mm,White, Tin plated; Part Number: FPC_05P-0.5mm-RA-SMD; Manufacturer: WCON; Manufacturer Part Number: 5141-05RZDNWR03; Part number NEMS: 100500528; Value: FPC 0.5mm RA SMD; Note: (Replaced 5141-05RZDNWR02); Artikkelnr Noca: N.A.; Pad Count: 7; Component Status: Active; System: Connector; Footprint Doc: FPC_05P-0.5mm-RA-SMD; LatestRevisionDate: 2024-02-02; Published: 2015-06-22; Part number IPS: N.A.; ComponentLink1URL: N.A.; ComponentLink1Description: Datasheet; ComponentLink2URL: N.A.; ComponentLink2Description: Supplier link; HelpURL: \\hizz\pro\app9717\Datasheet\connectors\W-CON\5141-05RZDNXX02.pdf; Supplier 1: Cabcon; Supplier Part Number 1: 5141-05RZDNWR03; Supplier 2: N.A.; Supplier Part Number 2: N.A.; Component Class: Connectors; PartId: 100500528; Author: rsk; Part number Norautron: N.A.
footprint FPC_05P-0.5mm-RA-SMD
pins: 1, 2, 3, 4, 5

## NordicArduinoTemplate
designator NA?
Template for the Nordic Arduino Shield; MP: Arduino Uno Rev3; Value: *; SnapEDA_Link: https://www.snapeda.com/parts/Arduino%20Uno%20Rev3/Arduino/view-part/?ref=snap; MF: Arduino; Availability: Not in stock; Price: None; Package: Non-Standard Arduino; Check_prices: https://www.snapeda.com/parts/Arduino%20Uno%20Rev3/Arduino/view-part/?ref=eda
footprint NORDIC_ARDUINO_TEMPLATE_SHIELD
part A pins: 5V (power), GND (power), GND (power), N.C. (power), RST, VDD (power), VDD (power), VDD (power)
part B pins: P0.04, P0.05, P0.06, P0.07, P0.25, P0.26
part C pins: P1.00, P1.01, P1.04, P1.05, P1.06, P1.07, P1.08, P1.09
part D pins: GND (power), P0.27, P1.02, P1.03, P1.10, P1.11, P1.12, P1.13 (power), P1.14, P1.15
part A text: CON2/P1
part B text: CON3/P2
part C text: CON4/P3
part D text: CON1/P4

## nPM1100-QDAx
designator U?
Li-Ion/Li-Polymer USB battery charger with a high efficiency buck regulator; Pad Count: 24; Footprint Doc: QFN-24; Value: nPM1100-QDAx; Component Class: nRF_Devices
footprint QFN50P400X400X80_HS-25N
pins: 1 VOUTB (power), 2 VOUTBSET1 (in), 3 VOUTBSET0 (in), 4 AVSS (power), 5 ISET (in), 6 SHPACT (in), 7 MODE (in), 8 CHG (out), 9 VTERM (in), 10 ERR (out), 11 SHPHLD (in), 12 ICHG (in), 13 NC (power), 14 NTC (in), 15 VBAT (power), 16 VSYS (power), 17 VBUS (power), 18 NC (power), 19 D- (io), 20 D+ (io), 21 DEC (power), 22 SW (power), 23 PVSS (power), 24 NC (power), 25 AVSS (power)
text: nPM1100

## nPM1300-QEAA
designator U?
Li-Ion/Li-Polymer USB-C battery charger with high efficiency buck regulators, LDOs or load switches, LED drivers, TWI and VBUSOUT; Manufacturer: Nordic Semiconductor; Part number NEMS: 102000252; Component Status: Active; Pad Count: 33; Note: N.A.; Part Number: nPM1300-QEAA; PartId: 102000252; Component Class: nRF_Devices; Author: eisk; Manufacturer Part Number: nPM1300-QEAA; ComponentLink1URL: N.A.; ComponentLink1Description: Datasheet; ComponentLink2URL: N.A.; ComponentLink2Description: Supplier link; HelpURL: N.A.; LatestRevisionDate: 2022-11-14; Published: 2022-02-17; Footprint Doc: QFN-32; Value: nPM1300-QEAA; Supplier 1: Nordic Semiconductor; Supplier Part Number 1: nPM1300-QEAA; Supplier 2: N.A.; Supplier Part Number 2: N.A.; Artikkelnr Noca: N.A.; Part number IPS: N.A.; Part number Norautron: N.A.
footprint Nordic_QFN50P500X500X90-33N
pins: 1 VOUT1 (power), 2 PVSS1 (power), 3 SW1 (power), 4 PVDD (power), 5 SW2 (power), 6 PVSS2 (power), 7 GPIO0 (io), 8 GPIO1 (io), 9 GPIO2 (io), 10 GPIO3 (io), 11 GPIO4 (io), 12 VDDIO (power), 13 SDA (oc), 14 SCL (in), 15 SHPHLD (in), 16 VSET2 (in), 17 VSET1 (in), 18 NTC (in), 19 VBAT, 20 VSYS (power), 21 VBUS (power), 22 VBUSOUT (power), 23 CC1 (io), 24 CC2 (io), 25 LED0 (out), 26 LED1 (out), 27 LED2 (out), 28 LSIN1/VINLDO1 (power), 29 LSOUT1/VOUTLDO1 (power), 30 LSIN2/VINLDO2 (power), 31 LSOUT2/VOUTLDO2 (power), 32 VOUT2 (power), 33 AVSS (power)
text: nPM1300

## nPM1304_QEAA
designator U1, comment nPM1304-QEAA
Li-Ion/Li-Polymer USB-C battery charger with high efficiency buck regulators, LDOs or load switches, LED drivers, TWI and VBUSOUT; Manufacturer: Nordic Semiconductor; Part number NEMS: 102000396; Component Status: Active; Pad Count: 33; Artikkelnr Noca: N.A.; Part Number: nPM1304-QEAA; Component Class: Nordic_Devices; Author: eisk; Manufacturer Part Number: nPM1304-QEAA; ComponentLink1URL: N.A.; ComponentLink1Description: Datasheet; ComponentLink2URL: N.A.; ComponentLink2Description: Supplier link; HelpURL: N.A.; LatestRevisionDate: 2025-03-07; Published: 2025-03-07; Footprint Doc: QFN-32; Value: nPM1304-QEAA; Supplier 1: Nordic Semiconductor; Supplier Part Number 1: nPM1304-QEAA; Supplier 2: N.A.; Supplier Part Number 2: N.A.; Part number IPS: N.A.; Part number Norautron: N.A.; PartId: 102000396
footprint Nordic_QFN50P500X500X90-33N
pins: 1 VOUT1 (power), 2 PVSS1 (power), 3 SW1 (power), 4 PVDD (power), 5 SW2 (power), 6 PVSS2 (power), 7 GPIO0 (io), 8 GPIO1 (io), 9 GPIO2 (io), 10 GPIO3 (io), 11 GPIO4 (io), 12 VDDIO (power), 13 SDA (oc), 14 SCL (in), 15 SHPHLD (in), 16 VSET2 (in), 17 VSET1 (in), 18 NTC (in), 19 VBAT, 20 VSYS (power), 21 VBUS (power), 22 VBUSOUT (power), 23 CC1 (io), 24 CC2 (io), 25 LED0 (out), 26 LED1 (out), 27 LED2 (out), 28 LSIN1/VINLDO1 (power), 29 LSOUT1/VOUTLDO1 (power), 30 LSIN2/VINLDO2 (power), 31 LSOUT2/VOUTLDO2 (power), 32 VOUT2 (power), 33 AVSS (power)
text: BUCK1; nPM1304; BUCK2

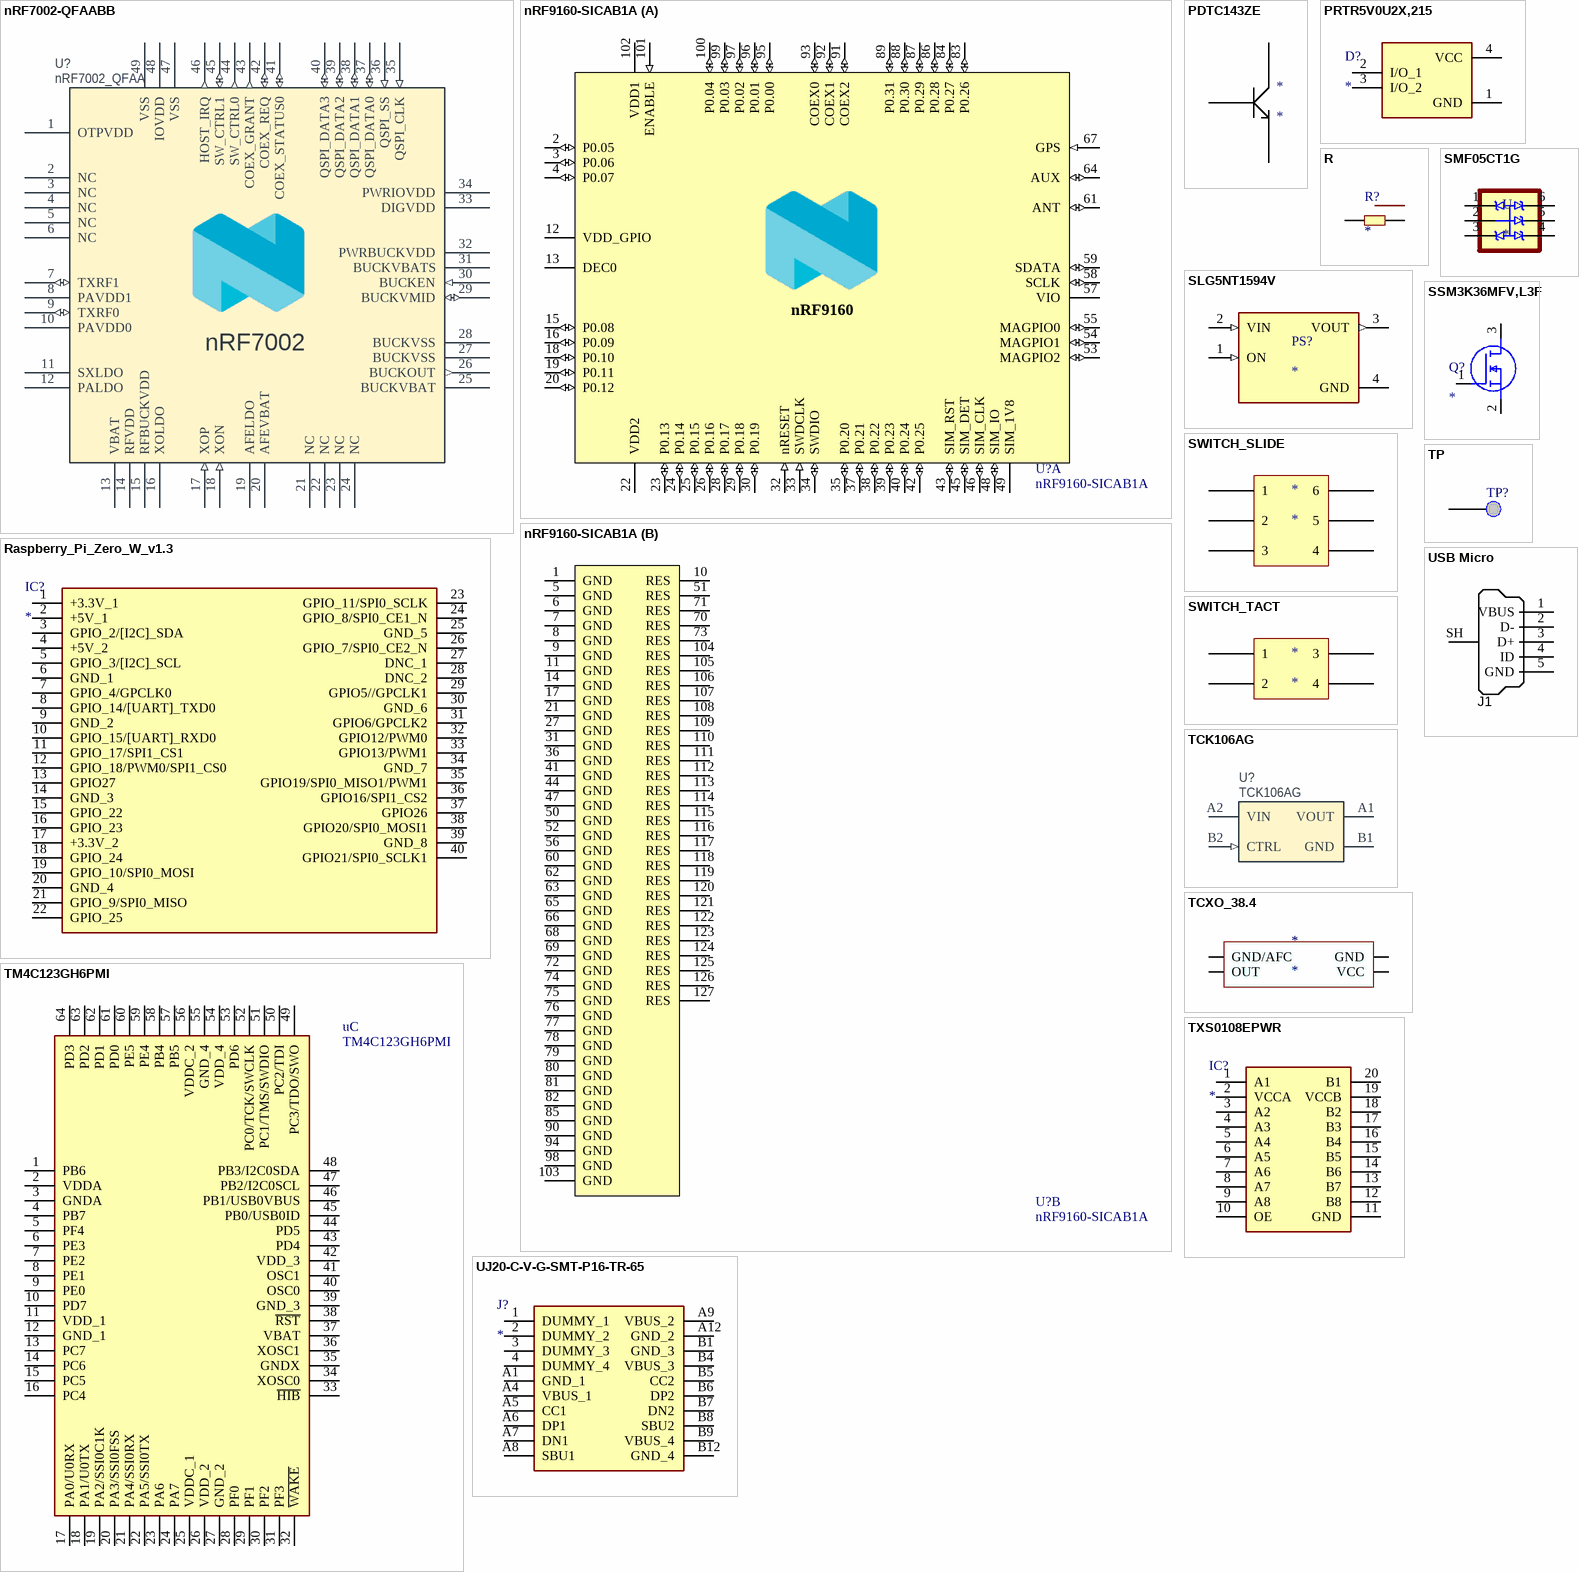
[diagram p3: symbols nRF7002-QFAABB to USB Micro]

## nRF7002-QFAABB
designator U?, comment nRF7002_QFAA
Wifi Dual Band Companion chip; Part Number: nRF7002-QFAABB; Manufacturer: Nordic Semiconductor; Component Status: Active; Pad Count: 49; Note: N.A.; Component Class: nRF_Devices; Author: hany; Manufacturer Part Number: nRF7002-QFAABB; ComponentLink1URL: N.A.; ComponentLink1Description: Datasheet; ComponentLink2URL: N.A.; ComponentLink2Description: Supplier link; HelpURL: N.A.; LatestRevisionDate: 2022-12-01; Published: 2022-12-01; Footprint Doc: QFN-48; Value: nRF7002; Supplier 1: Nordic Semiconductor; Supplier Part Number 1: nRF7002-QFAABB; Supplier 2: N.A.; Supplier Part Number 2: N.A.; Artikkelnr Noca: N.A.; Part number IPS: N.A.; Part number Norautron: N.A.
footprint QFN40P600X600X60-48N
pins: 1 OTPVDD (power) "OTP write mode supply,  (2.25-2.75V)", 2 NC, 3 NC, 4 NC, 5 NC, 6 NC, 7 TXRF1 (io) "RF INOUT ,", 8 PAVDD1 (power) "Supply ,  (3.3V)", 9 TXRF0 (io) "RF INOUT ,", 10 PAVDD0 (power) "Supply ,  (3.3V)", 11 SXLDO (power) "Supply ,  (1.2V)", 12 PALDO (power) "Supply ,  (3.3V)", 13 VBAT (power) "Supply ,  (2.5-4.5V)", 14 RFVDD (power) "Supply ,  (1.8V)", 15 RFBUCKVDD (power) "Supply ,  (1.5V)", 16 XOLDO (power) "Supply ,  (1.2V)", 17 XOP (in) "40MHz crystal ,", 18 XON (in) "40MHz crystal ,", 19 AFELDO (power) "Supply ,  (1.8V)", 20 AFEVBAT (power) "Supply ,  (2.5-4.5V)", 21 NC, 22 NC, 23 NC, 24 NC, 25 BUCKVBAT (power) "Supply ,  (2.5-4.5V)", 26 BUCKOUT (out) "DCDC output", 27 BUCKVSS (power) "DCDC GND", 28 BUCKVSS (power) "DCDC GND", 29 BUCKVMID (io) "Voltage reference decoupling pin ,", 30 BUCKEN (in) "PWR IP enable pin ,", 31 BUCKVBATS (power) "Supply ,  (2.5-4.5V)", 32 PWRBUCKVDD (power) "Supply ,  (1.5V)", 33 DIGVDD (power) "Supply ,  (1.1V)", 34 PWRIOVDD (power) "internal IO supply, may be used for OTP read,  (1.8-3.3 V)", 35 QSPI_CLK (in) "QSPI Clock", 36 QSPI_SS (in) "QSPI  Slave select", 37 QSPI_DATA0 (io) "QSPI data 0/MOSI", 38 QSPI_DATA1 (io) "QSPI data 1/MISO", 39 QSPI_DATA2 (io) "QSPI data 2/NC", 40 QSPI_DATA3 (io) "QSPI data 3/NC", 41 COEX_STATUS0 (io) "Coex interface, DIGMON1 (O) / GPIO1 (O)", 42 COEX_REQ (io) "Coex interface, DIGMON0 (O) / GPIO0 (O)", 43 COEX_GRANT (out) "Coex interface, GPIO2 (O)", 44 SW_CTRL0 (out) "external switch control , GPIO3 (O)", 45 SW_CTRL1 (io) "external switch control , GPIO4 (O) / BT_COEX_STATUS1 (I)", 46 HOST_IRQ (out) "Host processor interrupt request , GPIO5 (O)", 47 VSS "Connect to GND", 48 IOVDD (power) "IO supply ,  (1.8-3.3 V)", 49 VSS (power) "Center Pad"

## nRF9160-SICAB1A
designator U?
Low power System-in-Package with integrated LTE-M/NB-IoT modem and GPS; Manufacturer: Nordic Semiconductor; Part number IPS: 80000002329; Note: N.A.; Pad Count: 161; Part Number: nRF9160-SICAB1A; Manufacturer Part Number: nRF9160-SICAB1A; Footprint Doc: LGA-161; Value: nRF9160-SICAB1A; ComponentLink1URL: N.A.; ComponentLink1Description: Datasheet; ComponentLink2URL: N.A.; ComponentLink2Description: Supplier link; HelpURL: N.A.; LatestRevisionDate: 2020-08-13; Published: 2020-08-13; Supplier 1: Nordic Semiconductor; Supplier Part Number 1: nRF9160-SICAB1A; Supplier 2: N.A.; Supplier Part Number 2: N.A.; Artikkelnr Noca: N.A.; Component Class: nRF_Devices; Author: rsk; Part number Norautron: N.A.; PartId: 102000165
footprint LGA50P1600X1050X104-161N
part A pins: 2 P0.05 (io), 3 P0.06 (io), 4 P0.07 (io), 12 VDD_GPIO (power), 13 DEC0 (power), 15 P0.08 (io), 16 P0.09 (io), 18 P0.10 (io), 19 P0.11 (io), 20 P0.12 (io), 22 VDD2 (power), 23 P0.13 (io), 24 P0.14 (io), 25 P0.15 (io), 26 P0.16 (io), 28 P0.17 (io), 29 P0.18 (io), 30 P0.19 (io), 32 nRESET (in), 33 SWDCLK (in), 34 SWDIO (io), 35 P0.20 (io), 37 P0.21 (io), 38 P0.22 (io), 39 P0.23 (io), 40 P0.24 (io), 42 P0.25 (io), 43 SIM_RST (io), 45 SIM_DET (io), 46 SIM_CLK (io), 48 SIM_IO (io), 49 SIM_1V8 (power), 53 MAGPIO2 (io), 54 MAGPIO1 (io), 55 MAGPIO0 (io), 57 VIO (power), 58 SCLK (io), 59 SDATA (io), 61 ANT (io), 64 AUX (io), 67 GPS (in), 83 P0.26 (io), 84 P0.27 (io), 86 P0.28 (io), 87 P0.29 (io), 88 P0.30 (io), 89 P0.31 (io), 91 COEX2 (io), 92 COEX1 (io), 93 COEX0 (io), 95 P0.00 (io), 96 P0.01 (io), 97 P0.02 (io), 99 P0.03 (io), 100 P0.04 (io), 101 ENABLE (in), 102 VDD1 (power)
part B pins: 1 GND (power), 5 GND (power), 6 GND, 7 GND, 8 GND, 9 GND (power), 10 RES, 11 GND, 14 GND (power), 17 GND (power), 21 GND (power), 27 GND (power), 31 GND (power), 36 GND (power), 41 GND (power), 44 GND (power), 47 GND (power), 50 GND (power), 51 RES, 52 GND (power), 56 GND (power), 60 GND (power), 62 GND (power), 63 GND (power), 65 GND (power), 66 GND (power), 68 GND, 69 GND, 70 RES, 71 RES, 72 GND (power), 73 RES, 74 GND (power), 75 GND (power), 76 GND (power), 77 GND (power), 78 GND (power), 79 GND (power), 80 GND (power), 81 GND (power), 82 GND (power), 85 GND (power), 90 GND (power), 94 GND (power), 98 GND (power), 103 GND (power), 104 RES, 105 RES, 106 RES, 107 RES, 108 RES, 109 RES, 110 RES, 111 RES, 112 RES, 113 RES, 114 RES, 115 RES, 116 RES, 117 RES, 118 RES, 119 RES, 120 RES, 121 RES, 122 RES, 123 RES, 124 RES, 125 RES, 126 RES, 127 RES
part A text: nRF9160

## PDTC143ZE
designator *
Transistor
footprint SOT-23-3
footprint SOT416
pins: 1 C, 2 B, 3 E

## PRTR5V0U2X,215
designator D?
Diode; Manufacturer_Name: Nexperia; Manufacturer_Part_Number: PRTR5V0U2X,215; Datasheet Link: https://assets.nexperia.com/documents/data-sheet/PRTR5V0U2X.pdf; Height: 1.1mm; Mouser Part Number: 771-PRTR5V0U2X-T/R; Mouser Price/Stock: https://www.mouser.co.uk/ProductDetail/Nexperia/PRTR5V0U2X215?qs=LOCUfHb8d9sDkgY4cRj8Lw%3D%3D; Arrow Part Number: PRTR5V0U2X,215; Arrow Price/Stock: https://www.arrow.com/en/products/prtr5v0u2x215/nexperia?region=europe
footprint PRTR5V0U2X
pins: 1 GND, 2 I/O_1, 3 I/O_2, 4 VCC

## R
designator R?
Resistor
footprint 1206R
footprint 0603R
footprint 0805R
footprint 0201R
footprint 0402R
pins: 1, 2

## Raspberry_Pi_Zero_W_v1.3
designator IC?
RPI0W header with border; Manufacturer_Name: RASPBERRY-PI; Manufacturer_Part_Number: Raspberry Pi Zero W (v1.3); Datasheet Link: https://cdn.sparkfun.com/assets/learn_tutorials/6/7/6/PiZero_1.pdf
footprint RASPBERRYPIZEROWV13
footprint RASPBERRYPIZEROWV13_male
pins: 1 +3.3V_1, 2 +5V_1, 3 GPIO_2/[I2C]_SDA, 4 +5V_2, 5 GPIO_3/[I2C]_SCL, 6 GND_1, 7 GPIO_4/GPCLK0, 8 GPIO_14/[UART]_TXD0, 9 GND_2, 10 GPIO_15/[UART]_RXD0, 11 GPIO_17/SPI1_CS1, 12 GPIO_18/PWM0/SPI1_CS0, 13 GPIO27, 14 GND_3, 15 GPIO_22, 16 GPIO_23, 17 +3.3V_2, 18 GPIO_24, 19 GPIO_10/SPI0_MOSI, 20 GND_4, 21 GPIO_9/SPI0_MISO, 22 GPIO_25, 23 GPIO_11/SPI0_SCLK, 24 GPIO_8/SPI0_CE1_N, 25 GND_5, 26 GPIO_7/SPI0_CE2_N, 27 DNC_1, 28 DNC_2, 29 GPIO5//GPCLK1, 30 GND_6, 31 GPIO6/GPCLK2, 32 GPIO12/PWM0, 33 GPIO13/PWM1, 34 GND_7, 35 GPIO19/SPI0_MISO1/PWM1, 36 GPIO16/SPI1_CS2, 37 GPIO26, 38 GPIO20/SPI0_MOSI1, 39 GND_8, 40 GPIO21/SPI0_SCLK1

## SLG5NT1594V
designator PS?
Power Switch ICs - Power Distribution 1 mm2 Power Switch w/ Output discharge; MF: Dialog Semiconductor; MP: SLG59M1558V; Check_prices: https://www.snapeda.com/parts/SLG59M1558V/Dialog+Semiconductor/view-part/?ref=eda; SnapEDA_Link: https://www.snapeda.com/parts/SLG59M1558V/Dialog+Semiconductor/view-part/?ref=snap; Price: None; Availability: In Stock; Value: *; Package: UFDFN-4 Dialog Semiconductor GmbH; Purchase-URL: https://pricing.snapeda.com/search/part/SLG59M1558V/?ref=eda
footprint IC_SLG5NT1594V
pins: 1 ON (in), 2 VIN (in), 3 VOUT (out), 4 GND (power)

## SMF05CT1G
designator U
12.5V Clamp 8A _8/20Âµs_ Ipp Tvs Diode Surface Mount SC-88/SC70-6/SOT-363; MF: ON Semiconductor; MP: SMF05CT1G; Digi-Key_Part_Number: SMF05CT1GOSCT-ND; Package: SOT-363 ON Semiconductor; SnapEDA_Link: https://www.snapeda.com/parts/SMF05CT1G/ON%20Semiconductor/view-part/266365/?ref=snap; Digi-Key_Purchase_URL: https://www.digikey.com/product-detail/en/on-semiconductor/SMF05CT1G/SMF05CT1GOSCT-ND/1967287?utm_source=snapeda&utm_medium=aggregator&utm_campaign=symbol; Value: *
footprint SOT65P210X110-6N
pins: 1 C1, 2 A, 3 C2, 4 C3, 5 C4, 6 C5

## SSM3K36MFV,L3F
designator Q?
MOSFET (N-Channel); Manufacturer_Name: Toshiba; Manufacturer_Part_Number: SSM3K36MFV,L3F; Datasheet Link: https://www.mouser.jp/datasheet/2/408/SSM3K36MFV_datasheet_en_20241119-1022836.pdf; Height: 0.55mm; Mouser Part Number: 757-SSM3K36MFVL3F; Mouser Price/Stock: https://www.mouser.co.uk/ProductDetail/Toshiba/SSM3K36MFVL3F?qs=OLJpxlzHOSS5awu7mg3Tew%3D%3D; Arrow Part Number: SSM3K36MFV,L3F; Arrow Price/Stock: https://www.arrow.com/en/products/ssm3k36mfvl3f/toshiba?utm_currency=USD&region=nac
footprint SOTFL40P120X55-3N
pins: 1 G, 2 S, 3 D

## SWITCH_SLIDE
designator *
Switch slider
footprint SWITCH_2x3
pins: 1, 2, 3, 4, 5, 6

## SWITCH_TACT
designator *
Switch tact
footprint TACT - SMD
footprint TACT - SMD_small
pins: 1, 2, 3, 4

## TCK106AG
designator U?
1.0 A Load Switch IC with Slew Rate Control Driver in Ultra Small Package; Manufacturer: Toshiba; Manufacturer Part Number: TCK106AG,LF; Part number IPS: 00000004390; Part number Norautron: 26500627; Part number NEMS: 101900575; Note: N.A.; Pad Count: 4; Component Status: Active; Part Number: TCK106AG; ComponentLink1URL: https://toshiba.semicon-storage.com/info/docget.jsp?did=30131&prodName=TCK106AG; ComponentLink1Description: Datasheet; ComponentLink2URL: N.A.; ComponentLink2Description: Supplier link; HelpURL: N.A.; Footprint Doc: WLCSP-4; LatestRevisionDate: 2019-03-01; Published: 2019-02-17; Value: TCK106AG; Supplier 1: Digi-Key; Supplier Part Number 1: TCK106AGLFTR-ND; Supplier 2: Mouser; Supplier Part Number 2: 757-TCK106AGLF; Artikkelnr Noca: N.A.; Component Class: Misc_ICs; PartId: 101900575; Author: rsk
footprint BGA4C40P2X2_76X76X62
pins: A1 VOUT (power), A2 VIN (power), B1 GND (power), B2 CTRL (in)

## TCXO_38.4
designator *
TCXO
footprint TCXO_2.0x1.6
pins: 1 GND/AFC, 2 GND, 3 OUT, 4 VCC

## TM4C123GH6PMI
designator uC
Integrated Circuit; Manufacturer_Name: Texas Instruments; Datasheet Link: https://datasheet.datasheetarchive.com/originals/distributors/Datasheets-DGA25/1727354.pdf; Height: 1.6mm; Manufacturer_Part_Number: TM4C123GH6PMI; Mouser Part Number: 595-TM4C123GH6PMI; Mouser Price/Stock: https://www.mouser.co.uk/ProductDetail/Texas-Instruments/TM4C123GH6PMI?qs=9Y9qB%2FCsC3lZdfpeu9WHJw%3D%3D; Arrow Part Number: TM4C123GH6PMI; Arrow Price/Stock: https://www.arrow.com/en/products/tm4c123gh6pmi/texas-instruments?region=nac
footprint TM4C123GH6PMI (QFP, 64-Leads, Body 10x10mm, Pitch 0.5mm, IPC High Density)
pins: 1 PB6, 2 VDDA, 3 GNDA, 4 PB7, 5 PF4, 6 PE3, 7 PE2, 8 PE1, 9 PE0, 10 PD7, 11 VDD_1, 12 GND_1, 13 PC7, 14 PC6, 15 PC5, 16 PC4, 17 PA0/U0RX, 18 PA1/U0TX, 19 PA2/SSI0C1K, 20 PA3/SSI0FSS, 21 PA4/SSI0RX, 22 PA5/SSI0TX, 23 PA6, 24 PA7, 25 VDDC_1, 26 VDD_2, 27 GND_2, 28 PF0, 29 PF1, 30 PF2, 31 PF3, 32 ~{WAKE}, 33 ~{HIB}, 34 XOSC0, 35 GNDX, 36 XOSC1, 37 VBAT, 38 ~{RST}, 39 GND_3, 40 OSC0, 41 OSC1, 42 VDD_3, 43 PD4, 44 PD5, 45 PB0/USB0ID, 46 PB1/USB0VBUS, 47 PB2/I2C0SCL, 48 PB3/I2C0SDA, 49 PC3/TDO/SWO, 50 PC2/TDI, 51 PC1/TMS/SWDIO, 52 PC0/TCK/SWCLK, 53 PD6, 54 VDD_4, 55 GND_4, 56 VDDC_2, 57 PB5, 58 PB4, 59 PE4, 60 PE5, 61 PD0, 62 PD1, 63 PD2, 64 PD3

## TP
designator TP?, comment test point  (value not drawn)
footprint TP (test point)
pins: 1

## TXS0108EPWR
designator IC?
Voltage translator; Manufacturer_Name: Texas Instruments; Manufacturer_Part_Number: TXS0108EPWR; Datasheet Link: http://www.ti.com/lit/ds/symlink/txs0108e.pdf; Height: 1.2mm; Mouser Part Number: 595-TXS0108EPWR; Mouser Price/Stock: https://www.mouser.co.uk/ProductDetail/Texas-Instruments/TXS0108EPWR?qs=IUbkBnfnSQLgiWtCbWtYOw%3D%3D; Arrow Part Number: TXS0108EPWR; Arrow Price/Stock: https://www.arrow.com/en/products/txs0108epwr/texas-instruments?region=nac
footprint SOP65P640X120-20N
pins: 1 A1, 2 VCCA, 3 A2, 4 A3, 5 A4, 6 A5, 7 A6, 8 A7, 9 A8, 10 OE, 11 GND, 12 B8, 13 B7, 14 B6, 15 B5, 16 B4, 17 B3, 18 B2, 19 VCCB, 20 B1

## UJ20-C-V-G-SMT-P16-TR-65
designator J?
Connector; Manufacturer_Name: Same Sky; Manufacturer_Part_Number: UJ20-C-V-G-SMT-P16-TR-65; Datasheet Link: https://www.sameskydevices.com/product/resource/supplyframepdf/uj20-c-v-g-smt-p16-tr-65.pdf; Height: 6.1mm; Mouser Part Number: 179-UJ20CVGSMTP16TR6; Mouser Price/Stock: https://www.mouser.co.uk/ProductDetail/Same-Sky/UJ20-C-V-G-SMT-P16-TR-65?qs=IKkN%2F947nfBm4ejY6l33Rw%3D%3D
footprint UJ20CVGSMTP16TR65
pins: 1 DUMMY_1, 2 DUMMY_2, 3 DUMMY_3, 4 DUMMY_4, A1 GND_1, A4 VBUS_1, A5 CC1, A6 DP1, A7 DN1, A8 SBU1, A9 VBUS_2, A12 GND_2, B1 GND_3, B4 VBUS_3, B5 CC2, B6 DP2, B7 DN2, B8 SBU2, B9 VBUS_4, B12 GND_4

## USB Micro
designator J1, comment USB Micro Type B  (value not drawn)
Connector SMD USB Micro Type B middle mount; Manufacturer 1: Molex Inc; SCDType: undef; Package / Case: SMD; Supplier 1: Digi-Key; Supplier Part Number 1: WM17142CT-ND
footprint USB_Micro-B
pins: 1 VBUS, 2 D-, 3 D+, 4 ID, 5 GND, SH Shell

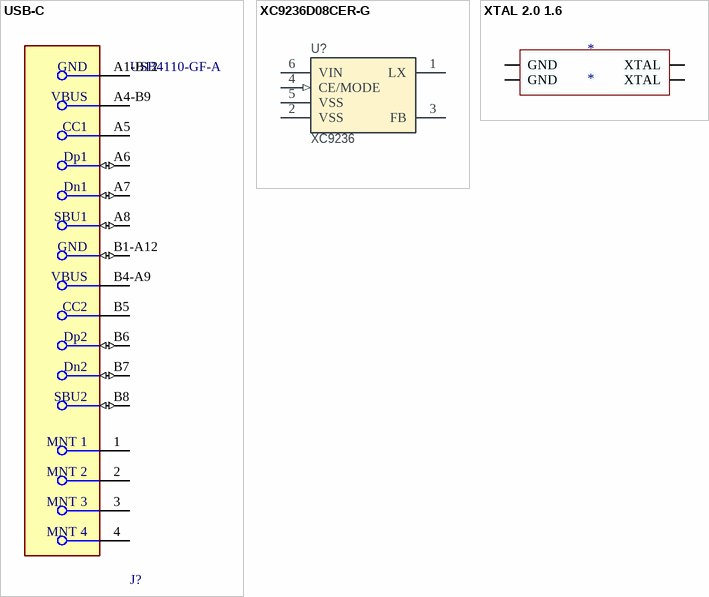
[diagram p4: symbols USB-C to XTAL 2.0 1.6]

## USB-C
designator J?, comment USB4110-GF-A
USB-C Connector, CMP-245163-000002-1; Manufacturer: GCT; Conn Orientation: Right Angle; Usb Standard: USB 2.0; Voltage Rating: 20V; Current Rating: 3/4.25/1.25/0.25A; Number Of Contacts: 16; Is Female: yes; Shielding: true; Standoff Height: 0.1mm; Octopart: https://octopart.com/usb4110-gf-a-gct-103941985; Temperature: -40°C to +85°C; RoHS: TRUE; Automotive: No; Contact Material: Gold,Nickel; Device Class L1: Connectors; Device Class L2: USB Connectors; Package: 0; Lead Free: Yes; ComponentLink2URL: https://gct.co/files/drawings/usb4110.pdf; Temperature Range High: +85°C; Temperature Range Low: -40°C; Height: 3.46mm; Manufacturer Part Number: USB4110-GF-A; ComponentLink2Description: Datasheet; Device Class L3: unset; Digikey Description: CONN USB 2.0 TYPE-C R/A SMT; Category: Conn
footprint FP-USB4110-GF-A-MFG
pins: 1 MNT 1, 2 MNT 2, 3 MNT 3, 4 MNT 4, A1-B12 GND, A4-B9 VBUS (power), A5 CC1 (power), A6 Dp1 (io), A7 Dn1 (io), A8 SBU1 (io), B1-A12 GND (io), B4-A9 VBUS (power), B5 CC2 (power), B6 Dp2 (io), B7 Dn2 (io), B8 SBU2 (io)

## XC9236D08CER-G
designator U?, comment XC9236
DCDC 600 mA; Part Number: XC9236D08CER-G; Manufacturer: Torex Semiconductor; Part number IPS: 00000004325; Part number NEMS: 101900207; Note: N.A.; Artikkelnr Noca: 17030085; Pad Count: 6; Component Status: Active; Manufacturer Part Number: XC9236D08CER-G; Footprint Doc: USP-6C; LatestRevisionDate: 2017-11-15; Published: 2017-11-15; Value: XC9236; ComponentLink1URL: N.A.; ComponentLink1Description: Datasheet; ComponentLink2URL: N.A.; ComponentLink2Description: Supplier link; HelpURL: http://www.torexsemi.com/products/dcdc_converters/data/XC9235~37.pdf; Supplier 1: Mouser; Supplier Part Number 1: 865-XC9236D08CER-G; Supplier 2: Digi-Key; Supplier Part Number 2: XC9236D08CER-G-ND; Component Class: Misc_ICs; PartId: 101900207; Author: rsk; Part number Norautron: N.A.
footprint USP-6C
pins: 1 LX, 2 VSS (power), 3 FB (power), 4 CE/MODE (in), 5 VSS (power), 6 VIN (power), 7 VSS (power) hidden to GND

## XTAL 2.0 1.6
designator *
XTAL
footprint XTAL 2.0 1.6
pins: 1 XTAL, 2 GND, 3 XTAL, 4 GND